# Altium schematic symbol library Contacts, Spring Loaded (Pogo Pins), and Pressure.SchLib: 1 symbol
Pins are listed as number, name and electrical type; pins without a type are passive.

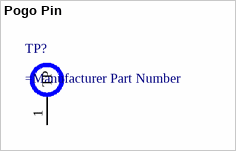
[diagram p0: symbol Pogo Pin]

## Pogo Pin
designator TP?
Pogo Pin Single Contact: 70-9150-BTB
footprint AVX 70-9150-001-025-006 (Pogo Pin Single Contact: 70-9150-BTB)
pins: 1 TP